# Altium footprint library Eaton_Power_Inductors.PcbLib: 1 footprints
Each footprint in its own frame and in the unit in brackets; x right, y up, seen from the top. Pads: shape width x height; smd on the part's side, far side on the other; paste and mask are expansions set on the pad; w line width, h text height; cw(c..) or ccw(c..) is an arc to the next point about the centre after c.
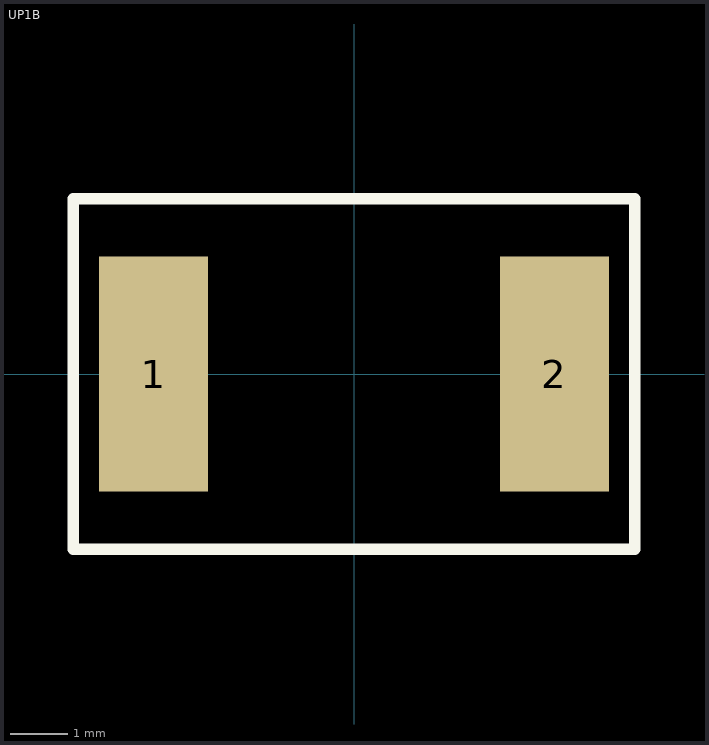
[diagram p0: the footprint, top view; thin cyan lines are the x and y axes]

## UP1B [mm]
pads (2):
  rect 1.9x4.1 smd: 1(-3.492,0) 2(3.492,0)
Top Overlay:
  lines w0.2: -4.892,-3.05 -4.892,0 -4.892,3.05 4.892,3.05 4.892,-3.05 -4.892,-3.05
3D body "UP1B.STEP": height 5.01, standoff 0, extent -4.445,-3.15 4.445,2.95